# Altium schematic symbol library SCH - MCU - INFINEON XMC - INFINEON XMC4502F100.SchLib: 1 symbol
Pins are listed as number, name and electrical type; pins without a type are passive.

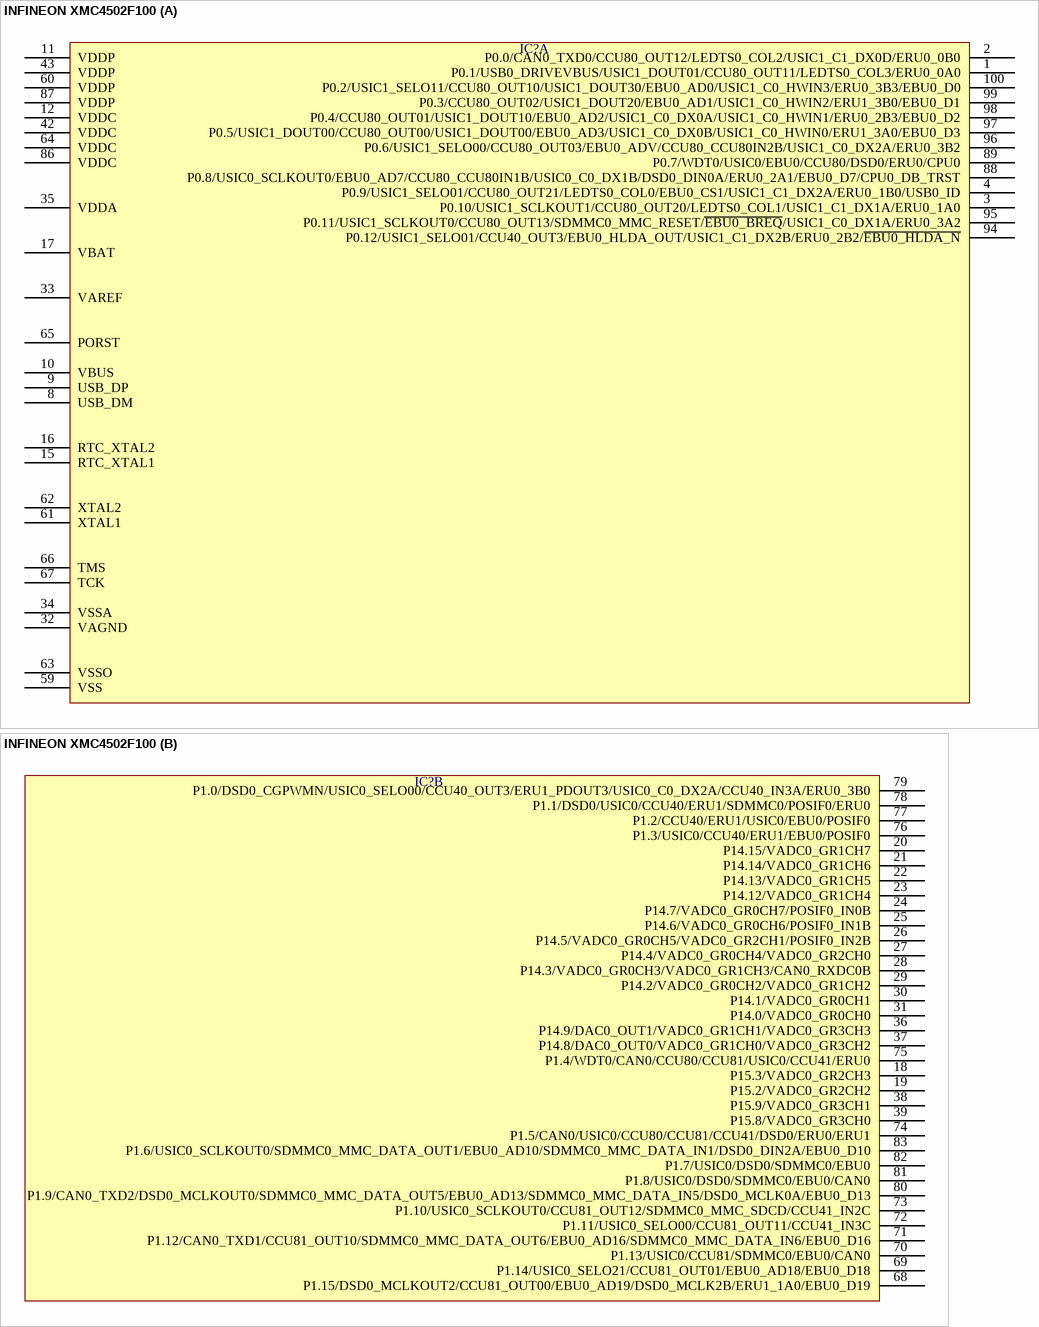
[diagram p0: symbol INFINEON XMC4502F100]

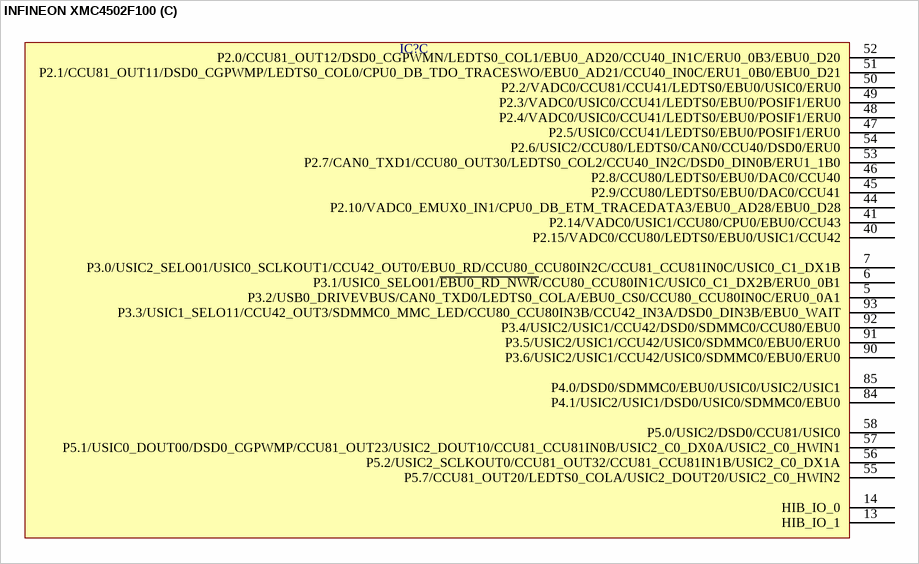
[diagram p1: symbol INFINEON XMC4502F100]

## INFINEON XMC4502F100
designator IC?  (value not drawn)
part A pins: 1 P0.1/USB0_DRIVEVBUS/USIC1_DOUT01/CCU80_OUT11/LEDTS0_COL3/ERU0_0A0, 2 P0.0/CAN0_TXD0/CCU80_OUT12/LEDTS0_COL2/USIC1_C1_DX0D/ERU0_0B0, 3 P0.10/USIC1_SCLKOUT1/CCU80_OUT20/LEDTS0_COL1/USIC1_C1_DX1A/ERU0_1A0, 4 P0.9/USIC1_SELO01/CCU80_OUT21/LEDTS0_COL0/EBU0_CS1/USIC1_C1_DX2A/ERU0_1B0/USB0_ID, 8 USB_DM, 9 USB_DP, 10 VBUS, 11 VDDP, 12 VDDC, 15 RTC_XTAL1, 16 RTC_XTAL2, 17 VBAT, 32 VAGND, 33 VAREF, 34 VSSA, 35 VDDA, 42 VDDC, 43 VDDP, 59 VSS, 60 VDDP, 61 XTAL1, 62 XTAL2, 63 VSSO, 64 VDDC, 65 PORST, 66 TMS, 67 TCK, 86 VDDC, 87 VDDP, 88 P0.8/USIC0_SCLKOUT0/EBU0_AD7/CCU80_CCU80IN1B/USIC0_C0_DX1B/DSD0_DIN0A/ERU0_2A1/EBU0_D7/CPU0_DB_TRST, 89 P0.7/WDT0/USIC0/EBU0/CCU80/DSD0/ERU0/CPU0, 94 P0.12/USIC1_SELO01/CCU40_OUT3/EBU0_HLDA_OUT/USIC1_C1_DX2B/ERU0_2B2/~{EBU0_HLDA_N}, 95 P0.11/USIC1_SCLKOUT0/CCU80_OUT13/SDMMC0_MMC_RESET/~{EBU0_BREQ}/USIC1_C0_DX1A/ERU0_3A2, 96 P0.6/USIC1_SELO00/CCU80_OUT03/EBU0_ADV/CCU80_CCU80IN2B/USIC1_C0_DX2A/ERU0_3B2, 97 P0.5/USIC1_DOUT00/CCU80_OUT00/USIC1_DOUT00/EBU0_AD3/USIC1_C0_DX0B/USIC1_C0_HWIN0/ERU1_3A0/EBU0_D3, 98 P0.4/CCU80_OUT01/USIC1_DOUT10/EBU0_AD2/USIC1_C0_DX0A/USIC1_C0_HWIN1/ERU0_2B3/EBU0_D2, 99 P0.3/CCU80_OUT02/USIC1_DOUT20/EBU0_AD1/USIC1_C0_HWIN2/ERU1_3B0/EBU0_D1, 100 P0.2/USIC1_SELO11/CCU80_OUT10/USIC1_DOUT30/EBU0_AD0/USIC1_C0_HWIN3/ERU0_3B3/EBU0_D0
part B pins: 18 P15.3/VADC0_GR2CH3, 19 P15.2/VADC0_GR2CH2, 20 P14.15/VADC0_GR1CH7, 21 P14.14/VADC0_GR1CH6, 22 P14.13/VADC0_GR1CH5, 23 P14.12/VADC0_GR1CH4, 24 P14.7/VADC0_GR0CH7/POSIF0_IN0B, 25 P14.6/VADC0_GR0CH6/POSIF0_IN1B, 26 P14.5/VADC0_GR0CH5/VADC0_GR2CH1/POSIF0_IN2B, 27 P14.4/VADC0_GR0CH4/VADC0_GR2CH0, 28 P14.3/VADC0_GR0CH3/VADC0_GR1CH3/CAN0_RXDC0B, 29 P14.2/VADC0_GR0CH2/VADC0_GR1CH2, 30 P14.1/VADC0_GR0CH1, 31 P14.0/VADC0_GR0CH0, 36 P14.9/DAC0_OUT1/VADC0_GR1CH1/VADC0_GR3CH3, 37 P14.8/DAC0_OUT0/VADC0_GR1CH0/VADC0_GR3CH2, 38 P15.9/VADC0_GR3CH1, 39 P15.8/VADC0_GR3CH0, 68 P1.15/DSD0_MCLKOUT2/CCU81_OUT00/EBU0_AD19/DSD0_MCLK2B/ERU1_1A0/EBU0_D19, 69 P1.14/USIC0_SELO21/CCU81_OUT01/EBU0_AD18/EBU0_D18, 70 P1.13/USIC0/CCU81/SDMMC0/EBU0/CAN0, 71 P1.12/CAN0_TXD1/CCU81_OUT10/SDMMC0_MMC_DATA_OUT6/EBU0_AD16/SDMMC0_MMC_DATA_IN6/EBU0_D16, 72 P1.11/USIC0_SELO00/CCU81_OUT11/CCU41_IN3C, 73 P1.10/USIC0_SCLKOUT0/CCU81_OUT12/SDMMC0_MMC_SDCD/CCU41_IN2C, 74 P1.5/CAN0/USIC0/CCU80/CCU81/CCU41/DSD0/ERU0/ERU1, 75 P1.4/WDT0/CAN0/CCU80/CCU81/USIC0/CCU41/ERU0, 76 P1.3/USIC0/CCU40/ERU1/EBU0/POSIF0, 77 P1.2/CCU40/ERU1/USIC0/EBU0/POSIF0, 78 P1.1/DSD0/USIC0/CCU40/ERU1/SDMMC0/POSIF0/ERU0, 79 P1.0/DSD0_CGPWMN/USIC0_SELO00/CCU40_OUT3/ERU1_PDOUT3/USIC0_C0_DX2A/CCU40_IN3A/ERU0_3B0, 80 P1.9/CAN0_TXD2/DSD0_MCLKOUT0/SDMMC0_MMC_DATA_OUT5/EBU0_AD13/SDMMC0_MMC_DATA_IN5/DSD0_MCLK0A/EBU0_D13, 81 P1.8/USIC0/DSD0/SDMMC0/EBU0/CAN0, 82 P1.7/USIC0/DSD0/SDMMC0/EBU0, 83 P1.6/USIC0_SCLKOUT0/SDMMC0_MMC_DATA_OUT1/EBU0_AD10/SDMMC0_MMC_DATA_IN1/DSD0_DIN2A/EBU0_D10
part C pins: 5 P3.2/USB0_DRIVEVBUS/CAN0_TXD0/LEDTS0_COLA/EBU0_CS0/CCU80_CCU80IN0C/ERU0_0A1, 6 P3.1/USIC0_SELO01/~{EBU0_RD_NWR}/CCU80_CCU80IN1C/USIC0_C1_DX2B/ERU0_0B1, 7 P3.0/USIC2_SELO01/USIC0_SCLKOUT1/CCU42_OUT0/EBU0_RD/CCU80_CCU80IN2C/CCU81_CCU81IN0C/USIC0_C1_DX1B, 13 HIB_IO_1, 14 HIB_IO_0, 40 P2.15/VADC0/CCU80/LEDTS0/EBU0/USIC1/CCU42, 41 P2.14/VADC0/USIC1/CCU80/CPU0/EBU0/CCU43, 44 P2.10/VADC0_EMUX0_IN1/CPU0_DB_ETM_TRACEDATA3/EBU0_AD28/EBU0_D28, 45 P2.9/CCU80/LEDTS0/EBU0/DAC0/CCU41, 46 P2.8/CCU80/LEDTS0/EBU0/DAC0/CCU40, 47 P2.5/USIC0/CCU41/LEDTS0/EBU0/POSIF1/ERU0, 48 P2.4/VADC0/USIC0/CCU41/LEDTS0/EBU0/POSIF1/ERU0, 49 P2.3/VADC0/USIC0/CCU41/LEDTS0/EBU0/POSIF1/ERU0, 50 P2.2/VADC0/CCU81/CCU41/LEDTS0/EBU0/USIC0/ERU0, 51 P2.1/CCU81_OUT11/DSD0_CGPWMP/LEDTS0_COL0/CPU0_DB_TDO_TRACESWO/EBU0_AD21/CCU40_IN0C/ERU1_0B0/EBU0_D21, 52 P2.0/CCU81_OUT12/DSD0_CGPWMN/LEDTS0_COL1/EBU0_AD20/CCU40_IN1C/ERU0_0B3/EBU0_D20, 53 P2.7/CAN0_TXD1/CCU80_OUT30/LEDTS0_COL2/CCU40_IN2C/DSD0_DIN0B/ERU1_1B0, 54 P2.6/USIC2/CCU80/LEDTS0/CAN0/CCU40/DSD0/ERU0, 55 P5.7/CCU81_OUT20/LEDTS0_COLA/USIC2_DOUT20/USIC2_C0_HWIN2, 56 P5.2/USIC2_SCLKOUT0/CCU81_OUT32/CCU81_CCU81IN1B/USIC2_C0_DX1A, 57 P5.1/USIC0_DOUT00/DSD0_CGPWMP/CCU81_OUT23/USIC2_DOUT10/CCU81_CCU81IN0B/USIC2_C0_DX0A/USIC2_C0_HWIN1, 58 P5.0/USIC2/DSD0/CCU81/USIC0, 84 P4.1/USIC2/USIC1/DSD0/USIC0/SDMMC0/EBU0, 85 P4.0/DSD0/SDMMC0/EBU0/USIC0/USIC2/USIC1, 90 P3.6/USIC2/USIC1/CCU42/USIC0/SDMMC0/EBU0/ERU0, 91 P3.5/USIC2/USIC1/CCU42/USIC0/SDMMC0/EBU0/ERU0, 92 P3.4/USIC2/USIC1/CCU42/DSD0/SDMMC0/CCU80/EBU0, 93 P3.3/USIC1_SELO11/CCU42_OUT3/SDMMC0_MMC_LED/CCU80_CCU80IN3B/CCU42_IN3A/DSD0_DIN3B/EBU0_WAIT